# Altium footprint library Transistors.PcbLib: 4 footprints
Each footprint in its own frame and in the unit in brackets; x right, y up, seen from the top. Pads: shape width x height; smd on the part's side, far side on the other; paste and mask are expansions set on the pad; w line width, h text height; cw(c..) or ccw(c..) is an arc to the next point about the centre after c.
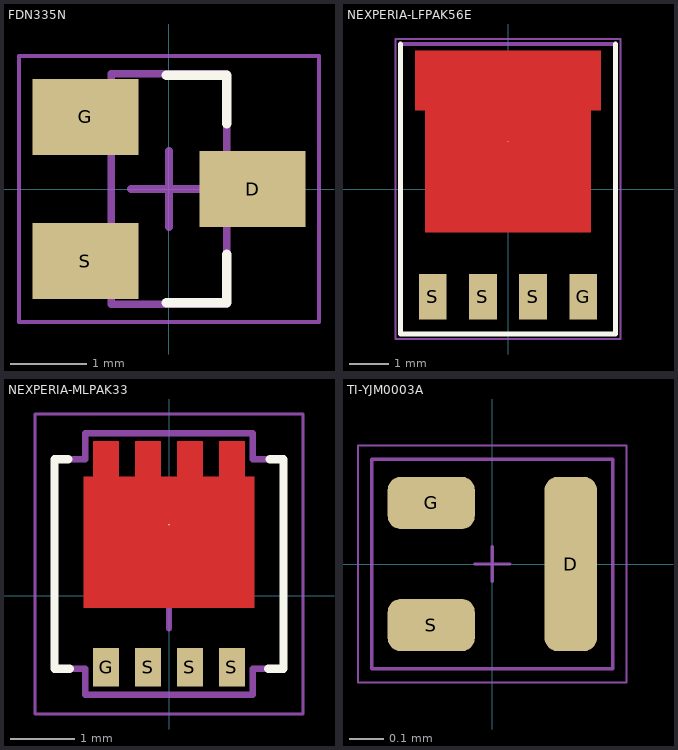
[diagram p0: the footprints below, top view; thin cyan lines are the x and y axes]

## FDN335N [mm] "N-Channel 2.5V Specified PowerTrench™ MOSFET 20V, 1.7A, 70mO"
height 1.12
pads (3):
  rect 1.4x1 smd mask+0.05: D(1.1,0) G(-1.1,0.95) S(-1.1,-0.95)
Top Overlay:
  lines w0.127: -0.037,-1.5 0.76,-1.5 0.76,-0.863 ; -0.037,1.5 0.76,1.5 0.76,0.863
Top Assembly:
  lines w0.1: -0.76,-1.52 -0.76,1.52 0.76,1.52 0.76,-1.52 -0.76,-1.52
  text "'.Designator'" at -0.135,1.448 h0.6
Top Courtyard:
  lines w0.05: -1.975,-1.75 -1.975,1.75 1.975,1.75 1.975,-1.75 -1.975,-1.75
  lines w0.1: -0.5,0 0.5,0 ; 0,-0.5 0,0.5
3D body "SOT95P251X112-3N.step": height 1.12, standoff 0, extent -1.355,-1.52 1.355,1.52

## NEXPERIA-LFPAK56E [mm] "Power-SO8 (SOT1023)"
height 1.1
pads (5):
  round 0.025 smd paste-2.3 mask+0.075: D(0,1.2)
  rect 0.7x1.15 smd paste-0.05 mask+0.075: G(1.905,-2.725) S(-1.905,-2.725) S(-0.635,-2.725) S(0.635,-2.725)
Top Layer:
  region: -2.1,2 -2.35,2 -2.35,3.5 2.35,3.5 2.35,2 2.1,2 2.1,-1.1 -2.1,-1.1
Top Overlay:
  lines w0.127: -2.725,3.675 -2.725,-3.675 2.725,-3.675 2.725,3.675
Top Paste:
  region: 2.13,2.55 2.13,3.45 1.53,3.45 1.53,2.55
  region: 0.91,2.55 0.91,3.45 0.31,3.45 0.31,2.55
  region: -1.53,2.55 -1.53,3.45 -2.13,3.45 -2.13,2.55
  region: -0.31,2.55 -0.31,3.45 -0.91,3.45 -0.91,2.55
  rectangle: -1.6,-0.85 -0.7,-0.25
  rectangle: 0.7,-0.85 1.6,-0.25
  rectangle: -0.45,-0.85 0.45,-0.25
  rectangle: 0.7,0.85 1.6,1.45
  rectangle: -0.45,0.85 0.45,1.45
  rectangle: -1.6,0.85 -0.7,1.45
  rectangle: -1.6,0 -0.7,0.6
  rectangle: 0.7,0 1.6,0.6
  rectangle: -0.45,0 0.45,0.6
Top Assembly:
  lines w0.1: -2.725,-3.675 2.725,-3.675 2.725,3.675 -2.725,3.675 -2.725,-3.675
  text ".Designator" at -2.252,-0.226 h1
Top Courtyard:
  lines w0.05: -2.85,-3.8 2.85,-3.8 2.85,3.8 -2.85,3.8 -2.85,-3.8
  lines w0.1: -0.5,0 0.5,0 ; 0,-0.5 0,0.5
3D body "SOT1023.step": height 1.03, standoff -0.01, extent -2.55,-2.91 2.55,3.23

## NEXPERIA-MLPAK33 [mm] "SOT8002-1"
height 0.9
pads (5):
  round 0.025 smd paste-2539.97 mask+0.05: D(0,1.105)
  rect 0.4x0.6 smd paste-0.05 mask+0.05: G(-0.975,-1.105) S(-0.325,-1.105) S(0.325,-1.105) S(0.975,-1.105)
Top Layer:
  region: -1.325,1.845 -1.175,1.845 -1.175,2.395 -0.775,2.395 -0.775,1.845 -0.525,1.845 -0.525,2.395 -0.125,2.395 -0.125,1.845 0.125,1.845 0.125,2.395 0.525,2.395 0.525,1.845 0.775,1.845 0.775,2.395 1.175,2.395 1.175,1.845 1.325,1.845 1.325,-0.185 -1.325,-0.185
Top Overlay:
  lines w0.127: -1.563,2.12 -1.775,2.12 -1.775,-1.13 -1.538,-1.13 ; 1.539,-1.13 1.775,-1.13 1.775,2.12 1.563,2.12
Top Paste:
  region: 0.825,1.845 1.125,1.845 1.125,2.345 0.825,2.345
  region: 0.1,0.73 1.05,0.73 1.05,0.03 0.1,0.03
  region: -1.05,1.63 -0.1,1.63 -0.1,0.93 -1.05,0.93
  region: 0.175,1.845 0.475,1.845 0.475,2.345 0.175,2.345
  region: -0.475,1.845 -0.175,1.845 -0.175,2.345 -0.475,2.345
  region: -1.125,1.845 -0.825,1.845 -0.825,2.345 -1.125,2.345
  region: -1.05,0.73 -0.1,0.73 -0.1,0.03 -1.05,0.03
  region: 0.1,1.63 1.05,1.63 1.05,0.93 0.1,0.93
Top Assembly:
  lines w0.1: -1.775,-1.13 -1.3,-1.13 -1.3,-1.53 1.3,-1.53 1.3,-1.13 1.775,-1.13 1.775,2.12 1.3,2.12 1.3,2.52 -1.3,2.52 -1.3,2.12 -1.775,2.12 -1.775,-1.13
  text ".Designator" at -1.578,-0.158 h0.7
Top Courtyard:
  lines w0.05: -2.075,-1.83 2.075,-1.83 2.075,2.82 -2.075,2.82 -2.075,-1.83
  lines w0.1: -0.5,0 0.5,0 ; 0,-0.5 0,0.5
3D body "SOT8002_1.step": height 0.83, standoff 0.01, extent -1.643,-1.143 1.637,2.157

## TI-YJM0003A [mm] "CSD15380F3"
height 0.36
pads (3):
  rrect50% 0.15x0.5 smd mask+0.05: D(0.225,0)
  rrect50% 0.25x0.15 smd mask+0.05: G(-0.175,0.175) S(-0.175,-0.175)
Top Assembly:
  lines w0.01: -0.345,-0.3 0.345,-0.3 0.345,0.3 -0.345,0.3 -0.345,-0.3
  text ".Designator" at -0.226,-0.023 h0.1
Top Courtyard:
  lines w0.005: -0.385,-0.34 -0.385,0.34 0.385,0.34 0.385,-0.34 -0.385,-0.34
  lines w0.01: -0.05,0 0.05,0 ; 0,-0.05 0,0.05
3D body "PICOSTAR3_YJM_TEX.step": height 0.36, standoff 0, extent -0.368,-0.318 0.368,0.318